# Altium schematic symbol library Buzzer.SchLib: 1 symbol
Pins are listed as number, name and electrical type; pins without a type are passive.

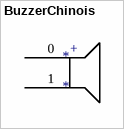
[diagram p0: symbol BuzzerChinois]

## BuzzerChinois
designator *
footprint BuzzerChinois
pins: 0 Plus, 1 Moins
text: +